# Altium integrated library Linear Technology Power Management uModule Regulators.IntLib: 166 symbols (part 50 of 67)
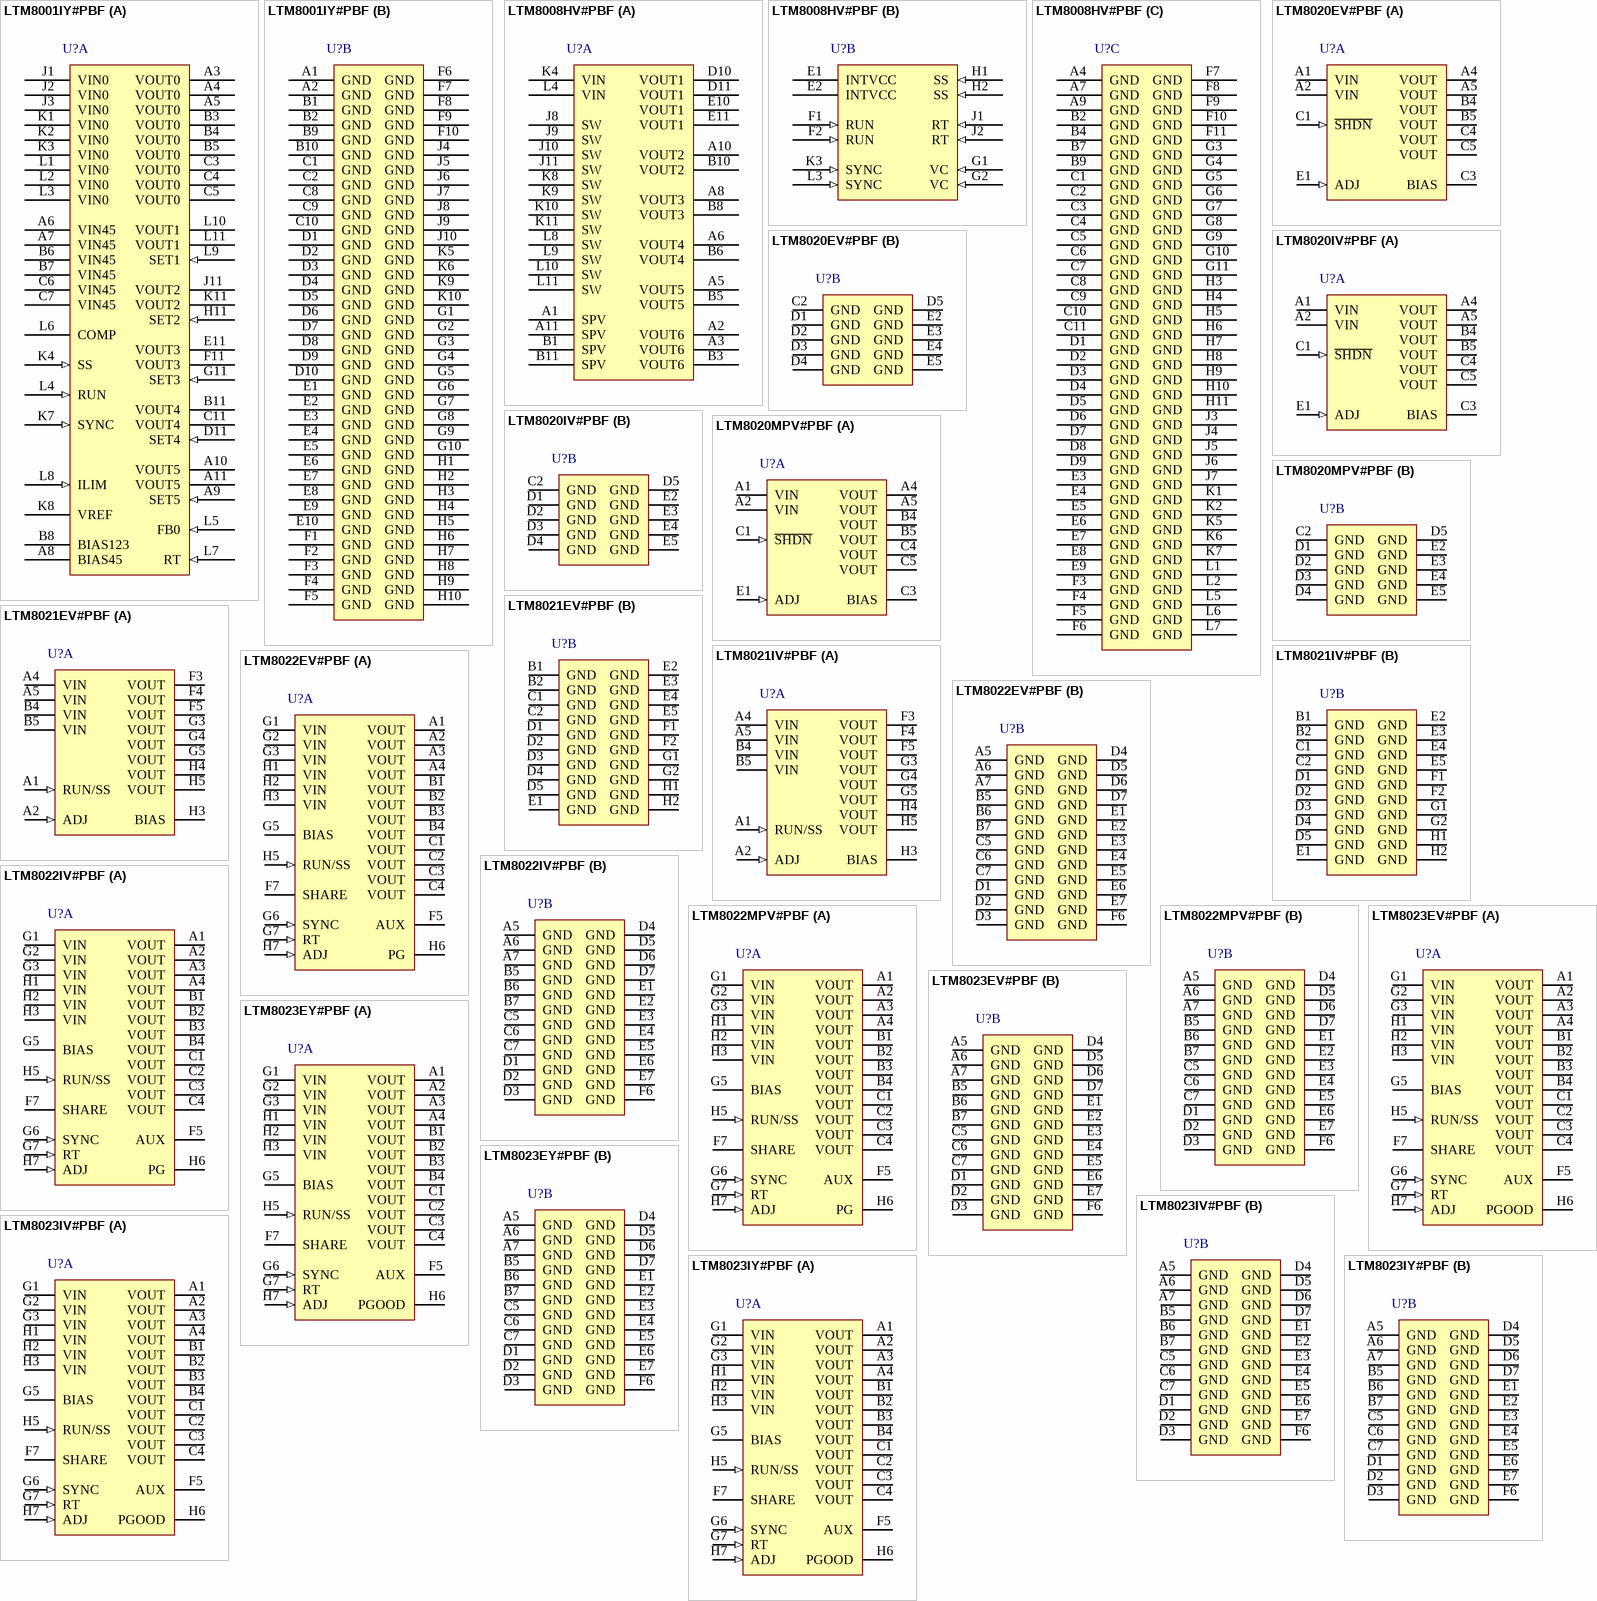
[diagram p76: symbols LTM8001IY#PBF to LTM8023IY#PBF]

## LTM8023EV#PBF
designator U?
2 A, 36 V DC/DC Step-Down uModule Regulator, 50-pin LGA, -40 to 85 degC, Pb-Free, Tray; Manufacturer: Linear Technology; PartNumber: LTM8023EV#PBF; Extended Temp: E, MP; Frequency Adjust Range: 200kHz - 2.4MHz; Frequency Sync Range: 250kHz - 2MHz; Frequency(kHz): 2400; Ishutdown(uA): 0.1; Isupply(mA): 0.085; Number of Outputs: 1; Output Current(A): 2; Switch Current(A): 2.7; Synchronous: no; Topology: Buck; Vin Max(V): 36; Vin Min(V): 3.6; Vout Max(V): 10; Vout Min(V): 0.8; DatasheetVersion: Rev. G; PackageVersion: Rev. C, 02/2013; PackageReference: LGA-50; PackageDescription: 50-Pin LGA, Body 11.25 x 9 mm, Pitch 1.27 mm; Supplier 1: Digi-Key; Supplier Part Number 1: LTM8023EV#PBF-ND; Supplier 2: Farnell; Supplier Part Number 2: 1609764; Supplier 3: Newark; Supplier Part Number 3: 75M4609; Packing: Tray; RoHS: TRUE; Tracking: no; Mounting Technology: Surface Mount; Code_JEDEC: MO-222; ComponentLink1Description: Manufacturer URL; ComponentLink1URL: http://www.linear.com/; ComponentLink2Description: Datasheet; ComponentLink2URL: http://cds.linear.com/docs/en/datasheet/8023fg.pdf; ComponentLink3Description: Package Specification; ComponentLink3URL: http://cds.linear.com/docs/en/packaging/05081804_C_lga50.pdf
footprint LT-LGA-50-05-08-1804_V (LGA, 50-Leads, Body 11.25x9mm, Pitch 1.27mm)
part A pins: A1 VOUT (power) "Power Output Pins. Apply the output filter capacitor and the output load between these pins and GND pins.", A2 VOUT (power) "Power Output Pins. Apply the output filter capacitor and the output load between these pins and GND pins.", A3 VOUT (power) "Power Output Pins. Apply the output filter capacitor and the output load between these pins and GND pins.", A4 VOUT (power) "Power Output Pins. Apply the output filter capacitor and the output load between these pins and GND pins.", B1 VOUT (power) "Power Output Pins. Apply the output filter capacitor and the output load between these pins and GND pins.", B2 VOUT (power) "Power Output Pins. Apply the output filter capacitor and the output load between these pins and GND pins.", B3 VOUT (power) "Power Output Pins. Apply the output filter capacitor and the output load between these pins and GND pins.", B4 VOUT (power) "Power Output Pins. Apply the output filter capacitor and the output load between these pins and GND pins.", C1 VOUT (power) "Power Output Pins. Apply the output filter capacitor and the output load between these pins and GND pins.", C2 VOUT (power) "Power Output Pins. Apply the output filter capacitor and the output load between these pins and GND pins.", C3 VOUT (power) "Power Output Pins. Apply the output filter capacitor and the output load between these pins and GND pins.", C4 VOUT (power) "Power Output Pins. Apply the output filter capacitor and the output load between these pins and GND pins.", F5 AUX (power) "Low Current Voltage Source for BIAS. The VAUX pin is internally connected to VOUT and is placed adjacent to the BIAS pin to ease printed circuit board routing. Although this pin is internally connected to VOUT, do NOT (See Datasheet)", F7 SHARE "Tie this to the SHARE pin of another LTM8023 when paralleling the outputs. Otherwise, do not connect (leave floating).", G1 VIN (power) "The VIN pin supplies current to the LTM8023’s internal regulator and to the internal power switch. This pin must be locally bypassed with an external, low ESR capacitor of at least 2.2uF.", G2 VIN (power) "The VIN pin supplies current to the LTM8023’s internal regulator and to the internal power switch. This pin must be locally bypassed with an external, low ESR capacitor of at least 2.2uF.", G3 VIN (power) "The VIN pin supplies current to the LTM8023’s internal regulator and to the internal power switch. This pin must be locally bypassed with an external, low ESR capacitor of at least 2.2uF.", G5 BIAS (power) "The BIAS pin connects to the internal power bus. Connect to a power source greater than 2.8V. If the output is greater than 2.8V, connect this pin there. If the output voltage is less, connect this to a voltage source (See Datasheet)", G6 SYNC (in) "This is the external clock synchronization input. Ground this pin for low ripple Burst Mode(R) operation at low output loads.", G7 RT (in) "The RT pin is used to program the switching frequency of the LTM8023 by connecting a resistor from this pin to ground.", H1 VIN (power) "The VIN pin supplies current to the LTM8023’s internal regulator and to the internal power switch. This pin must be locally bypassed with an external, low ESR capacitor of at least 2.2uF.", H2 VIN (power) "The VIN pin supplies current to the LTM8023’s internal regulator and to the internal power switch. This pin must be locally bypassed with an external, low ESR capacitor of at least 2.2uF.", H3 VIN (power) "The VIN pin supplies current to the LTM8023’s internal regulator and to the internal power switch. This pin must be locally bypassed with an external, low ESR capacitor of at least 2.2uF.", H5 RUN/SS (in) "Tie RUN/SS pin to ground to shut down the LTM8023. Tie to 2.5V or more for normal operation. If the shutdown feature is not used, tie this pin to the VIN pin. RUN/SS also provides a soft-start function; see the Applications (See Datasheet)", H6 PGOOD (oc) "The PGOOD pin is the open-collector output of an internal comparator. PG remains low until the ADJ pin is within 10% of the fi nal regulation voltage. PG output is valid when VIN is above 3.6V and RUN/SS is high. If this (See Datasheet)", H7 ADJ (in) "The LTM8023 regulates its ADJ pin to 0.79V. Connect the adjust resistor from this pin to ground."
part B pins: A5 GND (power) "Tie these GND pins to a local ground plane below the LTM8023 and the circuit components", A6 GND (power) "Tie these GND pins to a local ground plane below the LTM8023 and the circuit components", A7 GND (power) "Tie these GND pins to a local ground plane below the LTM8023 and the circuit components", B5 GND (power) "Tie these GND pins to a local ground plane below the LTM8023 and the circuit components", B6 GND (power) "Tie these GND pins to a local ground plane below the LTM8023 and the circuit components", B7 GND (power) "Tie these GND pins to a local ground plane below the LTM8023 and the circuit components", C5 GND (power) "Tie these GND pins to a local ground plane below the LTM8023 and the circuit components", C6 GND (power) "Tie these GND pins to a local ground plane below the LTM8023 and the circuit components", C7 GND (power) "Tie these GND pins to a local ground plane below the LTM8023 and the circuit components", D1 GND (power) "Tie these GND pins to a local ground plane below the LTM8023 and the circuit components", D2 GND (power) "Tie these GND pins to a local ground plane below the LTM8023 and the circuit components", D3 GND (power) "Tie these GND pins to a local ground plane below the LTM8023 and the circuit components", D4 GND (power) "Tie these GND pins to a local ground plane below the LTM8023 and the circuit components", D5 GND (power) "Tie these GND pins to a local ground plane below the LTM8023 and the circuit components", D6 GND (power) "Tie these GND pins to a local ground plane below the LTM8023 and the circuit components", D7 GND (power) "Tie these GND pins to a local ground plane below the LTM8023 and the circuit components", E1 GND (power) "Tie these GND pins to a local ground plane below the LTM8023 and the circuit components", E2 GND (power) "Tie these GND pins to a local ground plane below the LTM8023 and the circuit components", E3 GND (power) "Tie these GND pins to a local ground plane below the LTM8023 and the circuit components", E4 GND (power) "Tie these GND pins to a local ground plane below the LTM8023 and the circuit components", E5 GND (power) "Tie these GND pins to a local ground plane below the LTM8023 and the circuit components", E6 GND (power) "Tie these GND pins to a local ground plane below the LTM8023 and the circuit components", E7 GND (power) "Tie these GND pins to a local ground plane below the LTM8023 and the circuit components", F6 GND (power) "Tie these GND pins to a local ground plane below the LTM8023 and the circuit components"

## LTM8023EY#PBF
designator U?
2 A, 36 V DC/DC Step-Down uModule Regulator, 50-pin BGA, -40 to 85 degC, Pb-Free, Tray; Manufacturer: Linear Technology; PartNumber: LTM8023EY#PBF; Extended Temp: E, MP; Frequency Adjust Range: 200kHz - 2.4MHz; Frequency Sync Range: 250kHz - 2MHz; Frequency(kHz): 2400; Ishutdown(uA): 0.1; Isupply(mA): 0.085; Number of Outputs: 1; Output Current(A): 2; Switch Current(A): 2.7; Synchronous: no; Topology: Buck; Vin Max(V): 36; Vin Min(V): 3.6; Vout Max(V): 10; Vout Min(V): 0.8; DatasheetVersion: Rev. G; PackageVersion: Rev. A, 01/2013; PackageReference: BGA-50; PackageDescription: 50-Ball BGA, Body 11.25 x 9 mm, Pitch 1.27 mm; Supplier 1: Digi-Key; Supplier Part Number 1: LTM8023EY#PBF-ND; Supplier 2: Farnell; Supplier Part Number 2: 2068082; Supplier 3: Newark; Supplier Part Number 3: 78T3666; Packing: Tray; RoHS: TRUE; Tracking: no; Mounting Technology: Surface Mount; Code_JEDEC: MS-028; ComponentLink1Description: Manufacturer URL; ComponentLink1URL: http://www.linear.com/; ComponentLink2Description: Datasheet; ComponentLink2URL: http://cds.linear.com/docs/en/datasheet/8023fg.pdf; ComponentLink3Description: Package Specification; ComponentLink3URL: http://cds.linear.com/docs/en/packaging/05081883_A_bga50.pdf
footprint LT-BGA-50-11250X9000X3420 (BGA, 50-Balls, Body 11.25x9mm, Pitch 1.27mm)
part A pins: A1 VOUT (power) "Power Output Pins. Apply the output filter capacitor and the output load between these pins and GND pins.", A2 VOUT (power) "Power Output Pins. Apply the output filter capacitor and the output load between these pins and GND pins.", A3 VOUT (power) "Power Output Pins. Apply the output filter capacitor and the output load between these pins and GND pins.", A4 VOUT (power) "Power Output Pins. Apply the output filter capacitor and the output load between these pins and GND pins.", B1 VOUT (power) "Power Output Pins. Apply the output filter capacitor and the output load between these pins and GND pins.", B2 VOUT (power) "Power Output Pins. Apply the output filter capacitor and the output load between these pins and GND pins.", B3 VOUT (power) "Power Output Pins. Apply the output filter capacitor and the output load between these pins and GND pins.", B4 VOUT (power) "Power Output Pins. Apply the output filter capacitor and the output load between these pins and GND pins.", C1 VOUT (power) "Power Output Pins. Apply the output filter capacitor and the output load between these pins and GND pins.", C2 VOUT (power) "Power Output Pins. Apply the output filter capacitor and the output load between these pins and GND pins.", C3 VOUT (power) "Power Output Pins. Apply the output filter capacitor and the output load between these pins and GND pins.", C4 VOUT (power) "Power Output Pins. Apply the output filter capacitor and the output load between these pins and GND pins.", F5 AUX (power) "Low Current Voltage Source for BIAS. The VAUX pin is internally connected to VOUT and is placed adjacent to the BIAS pin to ease printed circuit board routing. Although this pin is internally connected to VOUT, do NOT (See Datasheet)", F7 SHARE "Tie this to the SHARE pin of another LTM8023 when paralleling the outputs. Otherwise, do not connect (leave floating).", G1 VIN (power) "The VIN pin supplies current to the LTM8023’s internal regulator and to the internal power switch. This pin must be locally bypassed with an external, low ESR capacitor of at least 2.2uF.", G2 VIN (power) "The VIN pin supplies current to the LTM8023’s internal regulator and to the internal power switch. This pin must be locally bypassed with an external, low ESR capacitor of at least 2.2uF.", G3 VIN (power) "The VIN pin supplies current to the LTM8023’s internal regulator and to the internal power switch. This pin must be locally bypassed with an external, low ESR capacitor of at least 2.2uF.", G5 BIAS (power) "The BIAS pin connects to the internal power bus. Connect to a power source greater than 2.8V. If the output is greater than 2.8V, connect this pin there. If the output voltage is less, connect this to a voltage source (See Datasheet)", G6 SYNC (in) "This is the external clock synchronization input. Ground this pin for low ripple Burst Mode operation at low output loads.", G7 RT (in) "The RT pin is used to program the switching frequency of the LTM8023 by connecting a resistor from this pin to ground.", H1 VIN (power) "The VIN pin supplies current to the LTM8023’s internal regulator and to the internal power switch. This pin must be locally bypassed with an external, low ESR capacitor of at least 2.2uF.", H2 VIN (power) "The VIN pin supplies current to the LTM8023’s internal regulator and to the internal power switch. This pin must be locally bypassed with an external, low ESR capacitor of at least 2.2uF.", H3 VIN (power) "The VIN pin supplies current to the LTM8023’s internal regulator and to the internal power switch. This pin must be locally bypassed with an external, low ESR capacitor of at least 2.2uF.", H5 RUN/SS (in) "Tie RUN/SS pin to ground to shut down the LTM8023. Tie to 2.5V or more for normal operation. If the shutdown feature is not used, tie this pin to the VIN pin. RUN/SS also provides a soft-start function; see the Applications (See Datasheet)", H6 PGOOD (oc) "The PGOOD pin is the open-collector output of an internal comparator. PG remains low until the ADJ pin is within 10% of the fi nal regulation voltage. PG output is valid when VIN is above 3.6V and RUN/SS is high. If this (See Datasheet)", H7 ADJ (in) "The LTM8023 regulates its ADJ pin to 0.79V. Connect the adjust resistor from this pin to ground."
part B pins: A5 GND (power) "Tie these GND pins to a local ground plane below the LTM8023 and the circuit components", A6 GND (power) "Tie these GND pins to a local ground plane below the LTM8023 and the circuit components", A7 GND (power) "Tie these GND pins to a local ground plane below the LTM8023 and the circuit components", B5 GND (power) "Tie these GND pins to a local ground plane below the LTM8023 and the circuit components", B6 GND (power) "Tie these GND pins to a local ground plane below the LTM8023 and the circuit components", B7 GND (power) "Tie these GND pins to a local ground plane below the LTM8023 and the circuit components", C5 GND (power) "Tie these GND pins to a local ground plane below the LTM8023 and the circuit components", C6 GND (power) "Tie these GND pins to a local ground plane below the LTM8023 and the circuit components", C7 GND (power) "Tie these GND pins to a local ground plane below the LTM8023 and the circuit components", D1 GND (power) "Tie these GND pins to a local ground plane below the LTM8023 and the circuit components", D2 GND (power) "Tie these GND pins to a local ground plane below the LTM8023 and the circuit components", D3 GND (power) "Tie these GND pins to a local ground plane below the LTM8023 and the circuit components", D4 GND (power) "Tie these GND pins to a local ground plane below the LTM8023 and the circuit components", D5 GND (power) "Tie these GND pins to a local ground plane below the LTM8023 and the circuit components", D6 GND (power) "Tie these GND pins to a local ground plane below the LTM8023 and the circuit components", D7 GND (power) "Tie these GND pins to a local ground plane below the LTM8023 and the circuit components", E1 GND (power) "Tie these GND pins to a local ground plane below the LTM8023 and the circuit components", E2 GND (power) "Tie these GND pins to a local ground plane below the LTM8023 and the circuit components", E3 GND (power) "Tie these GND pins to a local ground plane below the LTM8023 and the circuit components", E4 GND (power) "Tie these GND pins to a local ground plane below the LTM8023 and the circuit components", E5 GND (power) "Tie these GND pins to a local ground plane below the LTM8023 and the circuit components", E6 GND (power) "Tie these GND pins to a local ground plane below the LTM8023 and the circuit components", E7 GND (power) "Tie these GND pins to a local ground plane below the LTM8023 and the circuit components", F6 GND (power) "Tie these GND pins to a local ground plane below the LTM8023 and the circuit components"

## LTM8023IV#PBF
designator U?
2 A, 36 V DC/DC Step-Down uModule Regulator, 50-pin LGA, -40 to 85 degC, Pb-Free, Tray; Manufacturer: Linear Technology; PartNumber: LTM8023IV#PBF; Extended Temp: E, MP; Frequency Adjust Range: 200kHz - 2.4MHz; Frequency Sync Range: 250kHz - 2MHz; Frequency(kHz): 2400; Ishutdown(uA): 0.1; Isupply(mA): 0.085; Number of Outputs: 1; Output Current(A): 2; Switch Current(A): 2.7; Synchronous: no; Topology: Buck; Vin Max(V): 36; Vin Min(V): 3.6; Vout Max(V): 10; Vout Min(V): 0.8; DatasheetVersion: Rev. G; PackageVersion: Rev. C, 02/2013; PackageReference: LGA-50; PackageDescription: 50-Pin LGA, Body 11.25 x 9 mm, Pitch 1.27 mm; Supplier 1: Digi-Key; Supplier Part Number 1: LTM8023IV#PBF-ND; Supplier 2: Farnell; Supplier Part Number 2: 1647771; Supplier 3: Newark; Supplier Part Number 3: 02P7640; Packing: Tray; RoHS: TRUE; Tracking: no; Mounting Technology: Surface Mount; Code_JEDEC: MO-222; ComponentLink1Description: Manufacturer URL; ComponentLink1URL: http://www.linear.com/; ComponentLink2Description: Datasheet; ComponentLink2URL: http://cds.linear.com/docs/en/datasheet/8023fg.pdf; ComponentLink3Description: Package Specification; ComponentLink3URL: http://cds.linear.com/docs/en/packaging/05081804_C_lga50.pdf
footprint LT-LGA-50-05-08-1804_V (LGA, 50-Leads, Body 11.25x9mm, Pitch 1.27mm)
part A pins: A1 VOUT (power) "Power Output Pins. Apply the output filter capacitor and the output load between these pins and GND pins.", A2 VOUT (power) "Power Output Pins. Apply the output filter capacitor and the output load between these pins and GND pins.", A3 VOUT (power) "Power Output Pins. Apply the output filter capacitor and the output load between these pins and GND pins.", A4 VOUT (power) "Power Output Pins. Apply the output filter capacitor and the output load between these pins and GND pins.", B1 VOUT (power) "Power Output Pins. Apply the output filter capacitor and the output load between these pins and GND pins.", B2 VOUT (power) "Power Output Pins. Apply the output filter capacitor and the output load between these pins and GND pins.", B3 VOUT (power) "Power Output Pins. Apply the output filter capacitor and the output load between these pins and GND pins.", B4 VOUT (power) "Power Output Pins. Apply the output filter capacitor and the output load between these pins and GND pins.", C1 VOUT (power) "Power Output Pins. Apply the output filter capacitor and the output load between these pins and GND pins.", C2 VOUT (power) "Power Output Pins. Apply the output filter capacitor and the output load between these pins and GND pins.", C3 VOUT (power) "Power Output Pins. Apply the output filter capacitor and the output load between these pins and GND pins.", C4 VOUT (power) "Power Output Pins. Apply the output filter capacitor and the output load between these pins and GND pins.", F5 AUX (power) "Low Current Voltage Source for BIAS. The VAUX pin is internally connected to VOUT and is placed adjacent to the BIAS pin to ease printed circuit board routing. Although this pin is internally connected to VOUT, do NOT (See Datasheet)", F7 SHARE "Tie this to the SHARE pin of another LTM8023 when paralleling the outputs. Otherwise, do not connect (leave floating).", G1 VIN (power) "The VIN pin supplies current to the LTM8023’s internal regulator and to the internal power switch. This pin must be locally bypassed with an external, low ESR capacitor of at least 2.2uF.", G2 VIN (power) "The VIN pin supplies current to the LTM8023’s internal regulator and to the internal power switch. This pin must be locally bypassed with an external, low ESR capacitor of at least 2.2uF.", G3 VIN (power) "The VIN pin supplies current to the LTM8023’s internal regulator and to the internal power switch. This pin must be locally bypassed with an external, low ESR capacitor of at least 2.2uF.", G5 BIAS (power) "The BIAS pin connects to the internal power bus. Connect to a power source greater than 2.8V. If the output is greater than 2.8V, connect this pin there. If the output voltage is less, connect this to a voltage source (See Datasheet)", G6 SYNC (in) "This is the external clock synchronization input. Ground this pin for low ripple Burst Mode(R) operation at low output loads.", G7 RT (in) "The RT pin is used to program the switching frequency of the LTM8023 by connecting a resistor from this pin to ground.", H1 VIN (power) "The VIN pin supplies current to the LTM8023’s internal regulator and to the internal power switch. This pin must be locally bypassed with an external, low ESR capacitor of at least 2.2uF.", H2 VIN (power) "The VIN pin supplies current to the LTM8023’s internal regulator and to the internal power switch. This pin must be locally bypassed with an external, low ESR capacitor of at least 2.2uF.", H3 VIN (power) "The VIN pin supplies current to the LTM8023’s internal regulator and to the internal power switch. This pin must be locally bypassed with an external, low ESR capacitor of at least 2.2uF.", H5 RUN/SS (in) "Tie RUN/SS pin to ground to shut down the LTM8023. Tie to 2.5V or more for normal operation. If the shutdown feature is not used, tie this pin to the VIN pin. RUN/SS also provides a soft-start function; see the Applications (See Datasheet)", H6 PGOOD (oc) "The PGOOD pin is the open-collector output of an internal comparator. PG remains low until the ADJ pin is within 10% of the fi nal regulation voltage. PG output is valid when VIN is above 3.6V and RUN/SS is high. If this (See Datasheet)", H7 ADJ (in) "The LTM8023 regulates its ADJ pin to 0.79V. Connect the adjust resistor from this pin to ground."
part B pins: A5 GND (power) "Tie these GND pins to a local ground plane below the LTM8023 and the circuit components", A6 GND (power) "Tie these GND pins to a local ground plane below the LTM8023 and the circuit components", A7 GND (power) "Tie these GND pins to a local ground plane below the LTM8023 and the circuit components", B5 GND (power) "Tie these GND pins to a local ground plane below the LTM8023 and the circuit components", B6 GND (power) "Tie these GND pins to a local ground plane below the LTM8023 and the circuit components", B7 GND (power) "Tie these GND pins to a local ground plane below the LTM8023 and the circuit components", C5 GND (power) "Tie these GND pins to a local ground plane below the LTM8023 and the circuit components", C6 GND (power) "Tie these GND pins to a local ground plane below the LTM8023 and the circuit components", C7 GND (power) "Tie these GND pins to a local ground plane below the LTM8023 and the circuit components", D1 GND (power) "Tie these GND pins to a local ground plane below the LTM8023 and the circuit components", D2 GND (power) "Tie these GND pins to a local ground plane below the LTM8023 and the circuit components", D3 GND (power) "Tie these GND pins to a local ground plane below the LTM8023 and the circuit components", D4 GND (power) "Tie these GND pins to a local ground plane below the LTM8023 and the circuit components", D5 GND (power) "Tie these GND pins to a local ground plane below the LTM8023 and the circuit components", D6 GND (power) "Tie these GND pins to a local ground plane below the LTM8023 and the circuit components", D7 GND (power) "Tie these GND pins to a local ground plane below the LTM8023 and the circuit components", E1 GND (power) "Tie these GND pins to a local ground plane below the LTM8023 and the circuit components", E2 GND (power) "Tie these GND pins to a local ground plane below the LTM8023 and the circuit components", E3 GND (power) "Tie these GND pins to a local ground plane below the LTM8023 and the circuit components", E4 GND (power) "Tie these GND pins to a local ground plane below the LTM8023 and the circuit components", E5 GND (power) "Tie these GND pins to a local ground plane below the LTM8023 and the circuit components", E6 GND (power) "Tie these GND pins to a local ground plane below the LTM8023 and the circuit components", E7 GND (power) "Tie these GND pins to a local ground plane below the LTM8023 and the circuit components", F6 GND (power) "Tie these GND pins to a local ground plane below the LTM8023 and the circuit components"

## LTM8023IY#PBF
designator U?
2 A, 36 V DC/DC Step-Down uModule Regulator, 50-pin BGA, -40 to 85 degC, Pb-Free, Tray; Manufacturer: Linear Technology; PartNumber: LTM8023IY#PBF; Extended Temp: E, MP; Frequency Adjust Range: 200kHz - 2.4MHz; Frequency Sync Range: 250kHz - 2MHz; Frequency(kHz): 2400; Ishutdown(uA): 0.1; Isupply(mA): 0.085; Number of Outputs: 1; Output Current(A): 2; Switch Current(A): 2.7; Synchronous: no; Topology: Buck; Vin Max(V): 36; Vin Min(V): 3.6; Vout Max(V): 10; Vout Min(V): 0.8; DatasheetVersion: Rev. G; PackageVersion: Rev. A, 01/2013; PackageReference: BGA-50; PackageDescription: 50-Ball BGA, Body 11.25 x 9 mm, Pitch 1.27 mm; Supplier 1: Digi-Key; Supplier Part Number 1: LTM8023IY#PBF-ND; Supplier 2: Farnell; Supplier Part Number 2: 2115892; Packing: Tray; RoHS: TRUE; Tracking: no; Mounting Technology: Surface Mount; Code_JEDEC: MS-028; ComponentLink1Description: Manufacturer URL; ComponentLink1URL: http://www.linear.com/; ComponentLink2Description: Datasheet; ComponentLink2URL: http://cds.linear.com/docs/en/datasheet/8023fg.pdf; ComponentLink3Description: Package Specification; ComponentLink3URL: http://cds.linear.com/docs/en/packaging/05081883_A_bga50.pdf
footprint LT-BGA-50-11250X9000X3420 (BGA, 50-Balls, Body 11.25x9mm, Pitch 1.27mm)
part A pins: A1 VOUT (power) "Power Output Pins. Apply the output filter capacitor and the output load between these pins and GND pins.", A2 VOUT (power) "Power Output Pins. Apply the output filter capacitor and the output load between these pins and GND pins.", A3 VOUT (power) "Power Output Pins. Apply the output filter capacitor and the output load between these pins and GND pins.", A4 VOUT (power) "Power Output Pins. Apply the output filter capacitor and the output load between these pins and GND pins.", B1 VOUT (power) "Power Output Pins. Apply the output filter capacitor and the output load between these pins and GND pins.", B2 VOUT (power) "Power Output Pins. Apply the output filter capacitor and the output load between these pins and GND pins.", B3 VOUT (power) "Power Output Pins. Apply the output filter capacitor and the output load between these pins and GND pins.", B4 VOUT (power) "Power Output Pins. Apply the output filter capacitor and the output load between these pins and GND pins.", C1 VOUT (power) "Power Output Pins. Apply the output filter capacitor and the output load between these pins and GND pins.", C2 VOUT (power) "Power Output Pins. Apply the output filter capacitor and the output load between these pins and GND pins.", C3 VOUT (power) "Power Output Pins. Apply the output filter capacitor and the output load between these pins and GND pins.", C4 VOUT (power) "Power Output Pins. Apply the output filter capacitor and the output load between these pins and GND pins.", F5 AUX (power) "Low Current Voltage Source for BIAS. The VAUX pin is internally connected to VOUT and is placed adjacent to the BIAS pin to ease printed circuit board routing. Although this pin is internally connected to VOUT, do NOT (See Datasheet)", F7 SHARE "Tie this to the SHARE pin of another LTM8023 when paralleling the outputs. Otherwise, do not connect (leave floating).", G1 VIN (power) "The VIN pin supplies current to the LTM8023’s internal regulator and to the internal power switch. This pin must be locally bypassed with an external, low ESR capacitor of at least 2.2uF.", G2 VIN (power) "The VIN pin supplies current to the LTM8023’s internal regulator and to the internal power switch. This pin must be locally bypassed with an external, low ESR capacitor of at least 2.2uF.", G3 VIN (power) "The VIN pin supplies current to the LTM8023’s internal regulator and to the internal power switch. This pin must be locally bypassed with an external, low ESR capacitor of at least 2.2uF.", G5 BIAS (power) "The BIAS pin connects to the internal power bus. Connect to a power source greater than 2.8V. If the output is greater than 2.8V, connect this pin there. If the output voltage is less, connect this to a voltage source (See Datasheet)", G6 SYNC (in) "This is the external clock synchronization input. Ground this pin for low ripple Burst Mode operation at low output loads.", G7 RT (in) "The RT pin is used to program the switching frequency of the LTM8023 by connecting a resistor from this pin to ground.", H1 VIN (power) "The VIN pin supplies current to the LTM8023’s internal regulator and to the internal power switch. This pin must be locally bypassed with an external, low ESR capacitor of at least 2.2uF.", H2 VIN (power) "The VIN pin supplies current to the LTM8023’s internal regulator and to the internal power switch. This pin must be locally bypassed with an external, low ESR capacitor of at least 2.2uF.", H3 VIN (power) "The VIN pin supplies current to the LTM8023’s internal regulator and to the internal power switch. This pin must be locally bypassed with an external, low ESR capacitor of at least 2.2uF.", H5 RUN/SS (in) "Tie RUN/SS pin to ground to shut down the LTM8023. Tie to 2.5V or more for normal operation. If the shutdown feature is not used, tie this pin to the VIN pin. RUN/SS also provides a soft-start function; see the Applications (See Datasheet)", H6 PGOOD (oc) "The PGOOD pin is the open-collector output of an internal comparator. PG remains low until the ADJ pin is within 10% of the fi nal regulation voltage. PG output is valid when VIN is above 3.6V and RUN/SS is high. If this (See Datasheet)", H7 ADJ (in) "The LTM8023 regulates its ADJ pin to 0.79V. Connect the adjust resistor from this pin to ground."
part B pins: A5 GND (power) "Tie these GND pins to a local ground plane below the LTM8023 and the circuit components", A6 GND (power) "Tie these GND pins to a local ground plane below the LTM8023 and the circuit components", A7 GND (power) "Tie these GND pins to a local ground plane below the LTM8023 and the circuit components", B5 GND (power) "Tie these GND pins to a local ground plane below the LTM8023 and the circuit components", B6 GND (power) "Tie these GND pins to a local ground plane below the LTM8023 and the circuit components", B7 GND (power) "Tie these GND pins to a local ground plane below the LTM8023 and the circuit components", C5 GND (power) "Tie these GND pins to a local ground plane below the LTM8023 and the circuit components", C6 GND (power) "Tie these GND pins to a local ground plane below the LTM8023 and the circuit components", C7 GND (power) "Tie these GND pins to a local ground plane below the LTM8023 and the circuit components", D1 GND (power) "Tie these GND pins to a local ground plane below the LTM8023 and the circuit components", D2 GND (power) "Tie these GND pins to a local ground plane below the LTM8023 and the circuit components", D3 GND (power) "Tie these GND pins to a local ground plane below the LTM8023 and the circuit components", D4 GND (power) "Tie these GND pins to a local ground plane below the LTM8023 and the circuit components", D5 GND (power) "Tie these GND pins to a local ground plane below the LTM8023 and the circuit components", D6 GND (power) "Tie these GND pins to a local ground plane below the LTM8023 and the circuit components", D7 GND (power) "Tie these GND pins to a local ground plane below the LTM8023 and the circuit components", E1 GND (power) "Tie these GND pins to a local ground plane below the LTM8023 and the circuit components", E2 GND (power) "Tie these GND pins to a local ground plane below the LTM8023 and the circuit components", E3 GND (power) "Tie these GND pins to a local ground plane below the LTM8023 and the circuit components", E4 GND (power) "Tie these GND pins to a local ground plane below the LTM8023 and the circuit components", E5 GND (power) "Tie these GND pins to a local ground plane below the LTM8023 and the circuit components", E6 GND (power) "Tie these GND pins to a local ground plane below the LTM8023 and the circuit components", E7 GND (power) "Tie these GND pins to a local ground plane below the LTM8023 and the circuit components", F6 GND (power) "Tie these GND pins to a local ground plane below the LTM8023 and the circuit components"

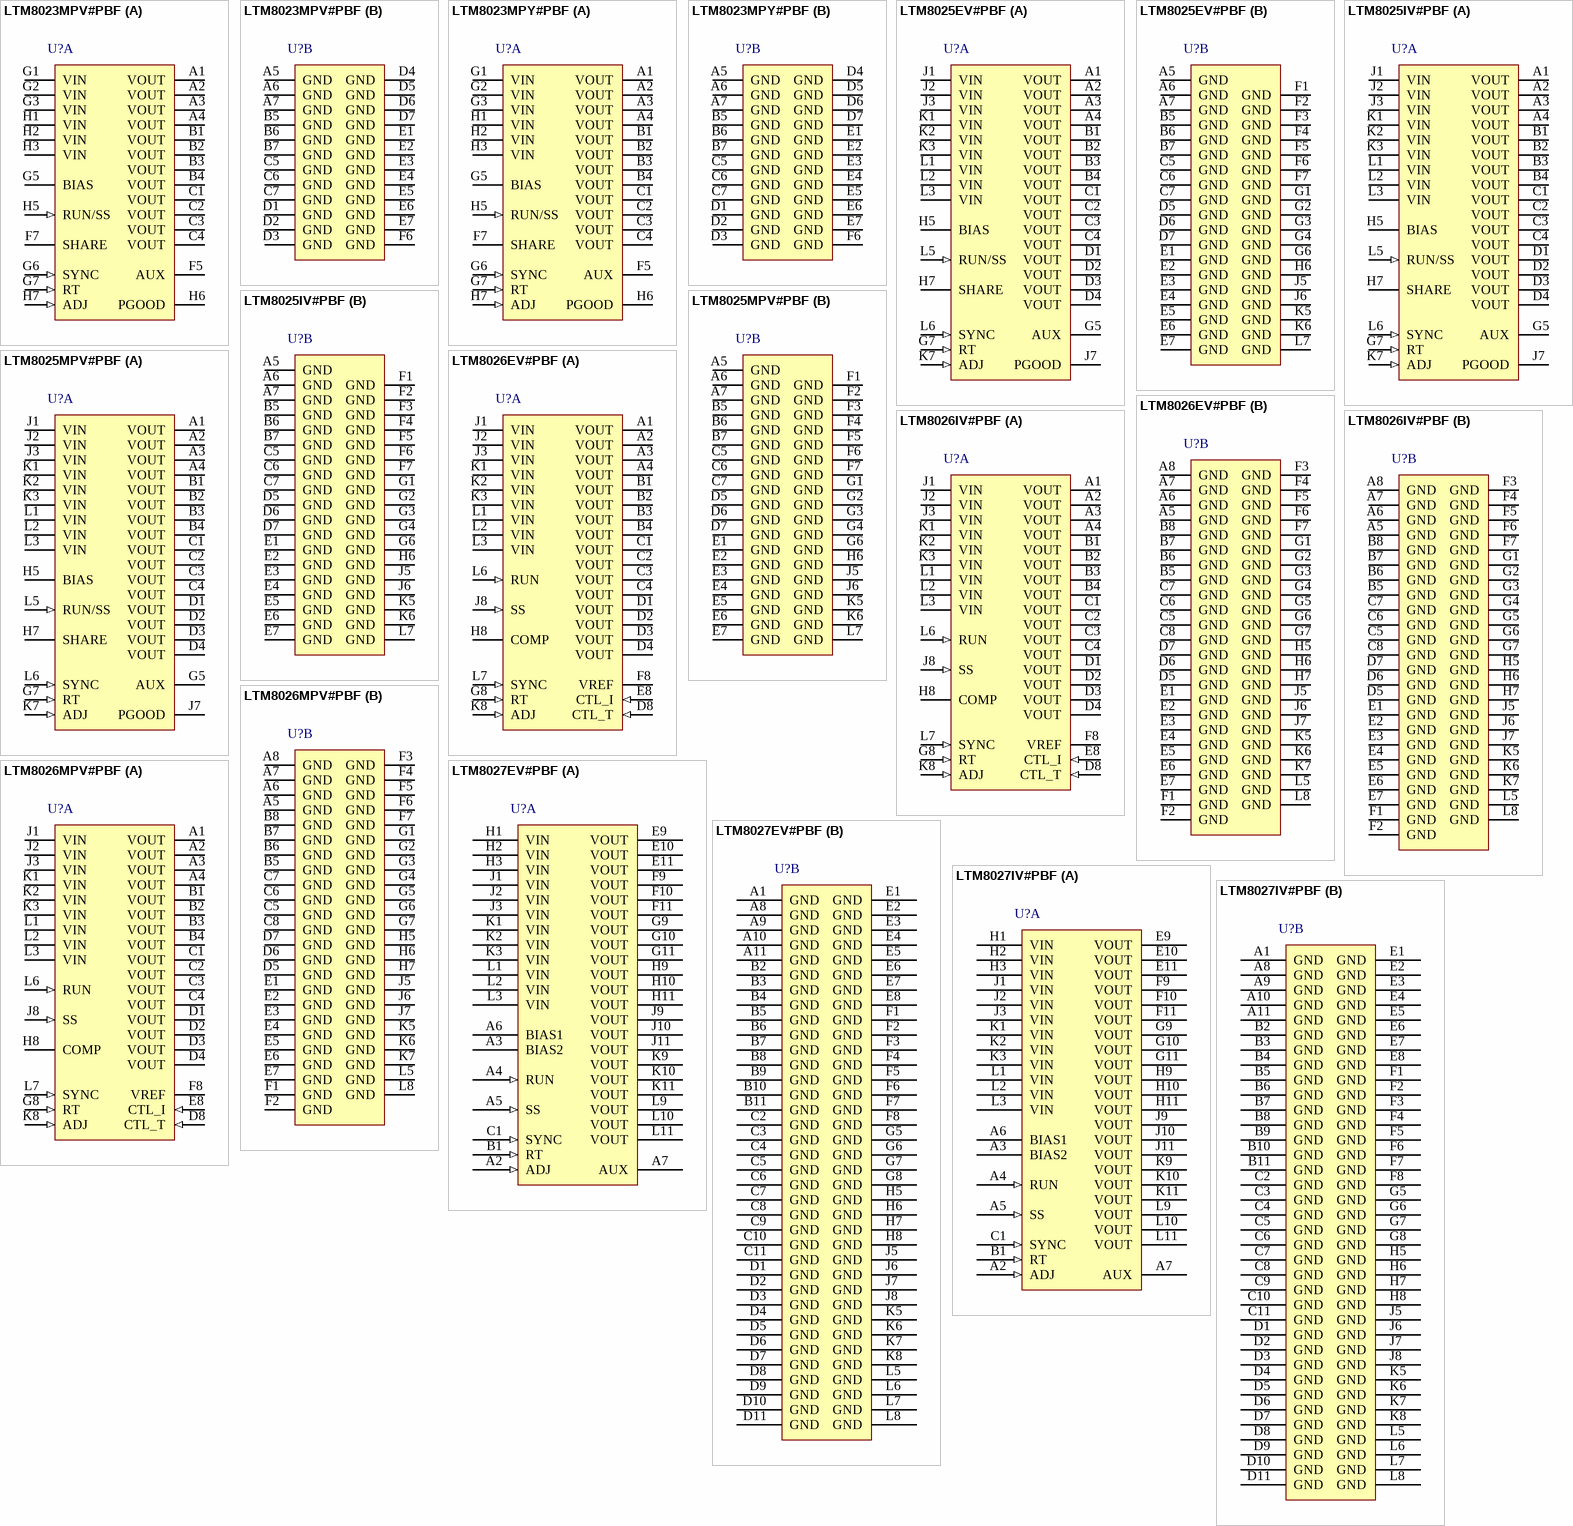
[diagram p22: symbols LTM8023MPV#PBF to LTM8027IV#PBF]

## LTM8023MPV#PBF
designator U?
2 A, 36 V DC/DC Step-Down uModule Regulator, 50-pin LGA, -55 to 125 degC, Pb-Free, Tray; Manufacturer: Linear Technology; PartNumber: LTM8023MPV#PBF; Extended Temp: E, MP; Frequency Adjust Range: 200kHz - 2.4MHz; Frequency Sync Range: 250kHz - 2MHz; Frequency(kHz): 2400; Ishutdown(uA): 0.1; Isupply(mA): 0.085; Number of Outputs: 1; Output Current(A): 2; Switch Current(A): 2.7; Synchronous: no; Topology: Buck; Vin Max(V): 36; Vin Min(V): 3.6; Vout Max(V): 10; Vout Min(V): 0.8; DatasheetVersion: Rev. G; PackageVersion: Rev. C, 02/2013; PackageReference: LGA-50; PackageDescription: 50-Pin LGA, Body 11.25 x 9 mm, Pitch 1.27 mm; Supplier 1: Digi-Key; Supplier Part Number 1: LTM8023MPV#PBF-ND; Supplier 2: Farnell; Supplier Part Number 2: 1799827; Supplier 3: Newark; Supplier Part Number 3: 19P9346; Packing: Tray; RoHS: TRUE; Tracking: no; Mounting Technology: Surface Mount; Code_JEDEC: MO-222; ComponentLink1Description: Manufacturer URL; ComponentLink1URL: http://www.linear.com/; ComponentLink2Description: Datasheet; ComponentLink2URL: http://cds.linear.com/docs/en/datasheet/8023fg.pdf; ComponentLink3Description: Package Specification; ComponentLink3URL: http://cds.linear.com/docs/en/packaging/05081804_C_lga50.pdf
footprint LT-LGA-50-05-08-1804_V (LGA, 50-Leads, Body 11.25x9mm, Pitch 1.27mm)
part A pins: A1 VOUT (power) "Power Output Pins. Apply the output filter capacitor and the output load between these pins and GND pins.", A2 VOUT (power) "Power Output Pins. Apply the output filter capacitor and the output load between these pins and GND pins.", A3 VOUT (power) "Power Output Pins. Apply the output filter capacitor and the output load between these pins and GND pins.", A4 VOUT (power) "Power Output Pins. Apply the output filter capacitor and the output load between these pins and GND pins.", B1 VOUT (power) "Power Output Pins. Apply the output filter capacitor and the output load between these pins and GND pins.", B2 VOUT (power) "Power Output Pins. Apply the output filter capacitor and the output load between these pins and GND pins.", B3 VOUT (power) "Power Output Pins. Apply the output filter capacitor and the output load between these pins and GND pins.", B4 VOUT (power) "Power Output Pins. Apply the output filter capacitor and the output load between these pins and GND pins.", C1 VOUT (power) "Power Output Pins. Apply the output filter capacitor and the output load between these pins and GND pins.", C2 VOUT (power) "Power Output Pins. Apply the output filter capacitor and the output load between these pins and GND pins.", C3 VOUT (power) "Power Output Pins. Apply the output filter capacitor and the output load between these pins and GND pins.", C4 VOUT (power) "Power Output Pins. Apply the output filter capacitor and the output load between these pins and GND pins.", F5 AUX (power) "Low Current Voltage Source for BIAS. The VAUX pin is internally connected to VOUT and is placed adjacent to the BIAS pin to ease printed circuit board routing. Although this pin is internally connected to VOUT, do NOT (See Datasheet)", F7 SHARE "Tie this to the SHARE pin of another LTM8023 when paralleling the outputs. Otherwise, do not connect (leave floating).", G1 VIN (power) "The VIN pin supplies current to the LTM8023’s internal regulator and to the internal power switch. This pin must be locally bypassed with an external, low ESR capacitor of at least 2.2uF.", G2 VIN (power) "The VIN pin supplies current to the LTM8023’s internal regulator and to the internal power switch. This pin must be locally bypassed with an external, low ESR capacitor of at least 2.2uF.", G3 VIN (power) "The VIN pin supplies current to the LTM8023’s internal regulator and to the internal power switch. This pin must be locally bypassed with an external, low ESR capacitor of at least 2.2uF.", G5 BIAS (power) "The BIAS pin connects to the internal power bus. Connect to a power source greater than 2.8V. If the output is greater than 2.8V, connect this pin there. If the output voltage is less, connect this to a voltage source (See Datasheet)", G6 SYNC (in) "This is the external clock synchronization input. Ground this pin for low ripple Burst Mode(R) operation at low output loads.", G7 RT (in) "The RT pin is used to program the switching frequency of the LTM8023 by connecting a resistor from this pin to ground.", H1 VIN (power) "The VIN pin supplies current to the LTM8023’s internal regulator and to the internal power switch. This pin must be locally bypassed with an external, low ESR capacitor of at least 2.2uF.", H2 VIN (power) "The VIN pin supplies current to the LTM8023’s internal regulator and to the internal power switch. This pin must be locally bypassed with an external, low ESR capacitor of at least 2.2uF.", H3 VIN (power) "The VIN pin supplies current to the LTM8023’s internal regulator and to the internal power switch. This pin must be locally bypassed with an external, low ESR capacitor of at least 2.2uF.", H5 RUN/SS (in) "Tie RUN/SS pin to ground to shut down the LTM8023. Tie to 2.5V or more for normal operation. If the shutdown feature is not used, tie this pin to the VIN pin. RUN/SS also provides a soft-start function; see the Applications (See Datasheet)", H6 PGOOD (oc) "The PGOOD pin is the open-collector output of an internal comparator. PG remains low until the ADJ pin is within 10% of the fi nal regulation voltage. PG output is valid when VIN is above 3.6V and RUN/SS is high. If this (See Datasheet)", H7 ADJ (in) "The LTM8023 regulates its ADJ pin to 0.79V. Connect the adjust resistor from this pin to ground."
part B pins: A5 GND (power) "Tie these GND pins to a local ground plane below the LTM8023 and the circuit components", A6 GND (power) "Tie these GND pins to a local ground plane below the LTM8023 and the circuit components", A7 GND (power) "Tie these GND pins to a local ground plane below the LTM8023 and the circuit components", B5 GND (power) "Tie these GND pins to a local ground plane below the LTM8023 and the circuit components", B6 GND (power) "Tie these GND pins to a local ground plane below the LTM8023 and the circuit components", B7 GND (power) "Tie these GND pins to a local ground plane below the LTM8023 and the circuit components", C5 GND (power) "Tie these GND pins to a local ground plane below the LTM8023 and the circuit components", C6 GND (power) "Tie these GND pins to a local ground plane below the LTM8023 and the circuit components", C7 GND (power) "Tie these GND pins to a local ground plane below the LTM8023 and the circuit components", D1 GND (power) "Tie these GND pins to a local ground plane below the LTM8023 and the circuit components", D2 GND (power) "Tie these GND pins to a local ground plane below the LTM8023 and the circuit components", D3 GND (power) "Tie these GND pins to a local ground plane below the LTM8023 and the circuit components", D4 GND (power) "Tie these GND pins to a local ground plane below the LTM8023 and the circuit components", D5 GND (power) "Tie these GND pins to a local ground plane below the LTM8023 and the circuit components", D6 GND (power) "Tie these GND pins to a local ground plane below the LTM8023 and the circuit components", D7 GND (power) "Tie these GND pins to a local ground plane below the LTM8023 and the circuit components", E1 GND (power) "Tie these GND pins to a local ground plane below the LTM8023 and the circuit components", E2 GND (power) "Tie these GND pins to a local ground plane below the LTM8023 and the circuit components", E3 GND (power) "Tie these GND pins to a local ground plane below the LTM8023 and the circuit components", E4 GND (power) "Tie these GND pins to a local ground plane below the LTM8023 and the circuit components", E5 GND (power) "Tie these GND pins to a local ground plane below the LTM8023 and the circuit components", E6 GND (power) "Tie these GND pins to a local ground plane below the LTM8023 and the circuit components", E7 GND (power) "Tie these GND pins to a local ground plane below the LTM8023 and the circuit components", F6 GND (power) "Tie these GND pins to a local ground plane below the LTM8023 and the circuit components"

## LTM8023MPY#PBF
designator U?
2 A, 36 V DC/DC Step-Down uModule Regulator, 50-pin BGA, -55 to 125 degC, Pb-Free, Tray; Manufacturer: Linear Technology; PartNumber: LTM8023MPY#PBF; Extended Temp: E, MP; Frequency Adjust Range: 200kHz - 2.4MHz; Frequency Sync Range: 250kHz - 2MHz; Frequency(kHz): 2400; Ishutdown(uA): 0.1; Isupply(mA): 0.085; Number of Outputs: 1; Output Current(A): 2; Switch Current(A): 2.7; Synchronous: no; Topology: Buck; Vin Max(V): 36; Vin Min(V): 3.6; Vout Max(V): 10; Vout Min(V): 0.8; DatasheetVersion: Rev. G; PackageVersion: Rev. A, 01/2013; PackageReference: BGA-50; PackageDescription: 50-Ball BGA, Body 11.25 x 9 mm, Pitch 1.27 mm; Supplier 1: Digi-Key; Supplier Part Number 1: LTM8023MPY#PBF-ND; Supplier 2: Farnell; Supplier Part Number 2: 2068083; Supplier 3: Newark; Supplier Part Number 3: 78T3668; Packing: Tray; RoHS: TRUE; Tracking: no; Mounting Technology: Surface Mount; Code_JEDEC: MS-028; ComponentLink1Description: Manufacturer URL; ComponentLink1URL: http://www.linear.com/; ComponentLink2Description: Datasheet; ComponentLink2URL: http://cds.linear.com/docs/en/datasheet/8023fg.pdf; ComponentLink3Description: Package Specification; ComponentLink3URL: http://cds.linear.com/docs/en/packaging/05081883_A_bga50.pdf
footprint LT-BGA-50-11250X9000X3420 (BGA, 50-Balls, Body 11.25x9mm, Pitch 1.27mm)
part A pins: A1 VOUT (power) "Power Output Pins. Apply the output filter capacitor and the output load between these pins and GND pins.", A2 VOUT (power) "Power Output Pins. Apply the output filter capacitor and the output load between these pins and GND pins.", A3 VOUT (power) "Power Output Pins. Apply the output filter capacitor and the output load between these pins and GND pins.", A4 VOUT (power) "Power Output Pins. Apply the output filter capacitor and the output load between these pins and GND pins.", B1 VOUT (power) "Power Output Pins. Apply the output filter capacitor and the output load between these pins and GND pins.", B2 VOUT (power) "Power Output Pins. Apply the output filter capacitor and the output load between these pins and GND pins.", B3 VOUT (power) "Power Output Pins. Apply the output filter capacitor and the output load between these pins and GND pins.", B4 VOUT (power) "Power Output Pins. Apply the output filter capacitor and the output load between these pins and GND pins.", C1 VOUT (power) "Power Output Pins. Apply the output filter capacitor and the output load between these pins and GND pins.", C2 VOUT (power) "Power Output Pins. Apply the output filter capacitor and the output load between these pins and GND pins.", C3 VOUT (power) "Power Output Pins. Apply the output filter capacitor and the output load between these pins and GND pins.", C4 VOUT (power) "Power Output Pins. Apply the output filter capacitor and the output load between these pins and GND pins.", F5 AUX (power) "Low Current Voltage Source for BIAS. The VAUX pin is internally connected to VOUT and is placed adjacent to the BIAS pin to ease printed circuit board routing. Although this pin is internally connected to VOUT, do NOT (See Datasheet)", F7 SHARE "Tie this to the SHARE pin of another LTM8023 when paralleling the outputs. Otherwise, do not connect (leave floating).", G1 VIN (power) "The VIN pin supplies current to the LTM8023’s internal regulator and to the internal power switch. This pin must be locally bypassed with an external, low ESR capacitor of at least 2.2uF.", G2 VIN (power) "The VIN pin supplies current to the LTM8023’s internal regulator and to the internal power switch. This pin must be locally bypassed with an external, low ESR capacitor of at least 2.2uF.", G3 VIN (power) "The VIN pin supplies current to the LTM8023’s internal regulator and to the internal power switch. This pin must be locally bypassed with an external, low ESR capacitor of at least 2.2uF.", G5 BIAS (power) "The BIAS pin connects to the internal power bus. Connect to a power source greater than 2.8V. If the output is greater than 2.8V, connect this pin there. If the output voltage is less, connect this to a voltage source (See Datasheet)", G6 SYNC (in) "This is the external clock synchronization input. Ground this pin for low ripple Burst Mode operation at low output loads.", G7 RT (in) "The RT pin is used to program the switching frequency of the LTM8023 by connecting a resistor from this pin to ground.", H1 VIN (power) "The VIN pin supplies current to the LTM8023’s internal regulator and to the internal power switch. This pin must be locally bypassed with an external, low ESR capacitor of at least 2.2uF.", H2 VIN (power) "The VIN pin supplies current to the LTM8023’s internal regulator and to the internal power switch. This pin must be locally bypassed with an external, low ESR capacitor of at least 2.2uF.", H3 VIN (power) "The VIN pin supplies current to the LTM8023’s internal regulator and to the internal power switch. This pin must be locally bypassed with an external, low ESR capacitor of at least 2.2uF.", H5 RUN/SS (in) "Tie RUN/SS pin to ground to shut down the LTM8023. Tie to 2.5V or more for normal operation. If the shutdown feature is not used, tie this pin to the VIN pin. RUN/SS also provides a soft-start function; see the Applications (See Datasheet)", H6 PGOOD (oc) "The PGOOD pin is the open-collector output of an internal comparator. PG remains low until the ADJ pin is within 10% of the fi nal regulation voltage. PG output is valid when VIN is above 3.6V and RUN/SS is high. If this (See Datasheet)", H7 ADJ (in) "The LTM8023 regulates its ADJ pin to 0.79V. Connect the adjust resistor from this pin to ground."
part B pins: A5 GND (power) "Tie these GND pins to a local ground plane below the LTM8023 and the circuit components", A6 GND (power) "Tie these GND pins to a local ground plane below the LTM8023 and the circuit components", A7 GND (power) "Tie these GND pins to a local ground plane below the LTM8023 and the circuit components", B5 GND (power) "Tie these GND pins to a local ground plane below the LTM8023 and the circuit components", B6 GND (power) "Tie these GND pins to a local ground plane below the LTM8023 and the circuit components", B7 GND (power) "Tie these GND pins to a local ground plane below the LTM8023 and the circuit components", C5 GND (power) "Tie these GND pins to a local ground plane below the LTM8023 and the circuit components", C6 GND (power) "Tie these GND pins to a local ground plane below the LTM8023 and the circuit components", C7 GND (power) "Tie these GND pins to a local ground plane below the LTM8023 and the circuit components", D1 GND (power) "Tie these GND pins to a local ground plane below the LTM8023 and the circuit components", D2 GND (power) "Tie these GND pins to a local ground plane below the LTM8023 and the circuit components", D3 GND (power) "Tie these GND pins to a local ground plane below the LTM8023 and the circuit components", D4 GND (power) "Tie these GND pins to a local ground plane below the LTM8023 and the circuit components", D5 GND (power) "Tie these GND pins to a local ground plane below the LTM8023 and the circuit components", D6 GND (power) "Tie these GND pins to a local ground plane below the LTM8023 and the circuit components", D7 GND (power) "Tie these GND pins to a local ground plane below the LTM8023 and the circuit components", E1 GND (power) "Tie these GND pins to a local ground plane below the LTM8023 and the circuit components", E2 GND (power) "Tie these GND pins to a local ground plane below the LTM8023 and the circuit components", E3 GND (power) "Tie these GND pins to a local ground plane below the LTM8023 and the circuit components", E4 GND (power) "Tie these GND pins to a local ground plane below the LTM8023 and the circuit components", E5 GND (power) "Tie these GND pins to a local ground plane below the LTM8023 and the circuit components", E6 GND (power) "Tie these GND pins to a local ground plane below the LTM8023 and the circuit components", E7 GND (power) "Tie these GND pins to a local ground plane below the LTM8023 and the circuit components", F6 GND (power) "Tie these GND pins to a local ground plane below the LTM8023 and the circuit components"